# Altium schematic symbol library Battery.SchLib: 1 symbol
Pins are listed as number, name and electrical type; pins without a type are passive.

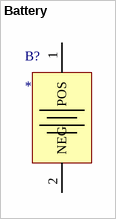
[diagram p0: symbol Battery]

## Battery
designator B?
Generic Battery
pins: 1 POS, 2 NEG